# Altium footprint library 47590-0001.PcbLib: 1 footprints
Each footprint in its own frame and in the unit in brackets; x right, y up, seen from the top. Pads: shape width x height; smd on the part's side, far side on the other; paste and mask are expansions set on the pad; w line width, h text height; cw(c..) or ccw(c..) is an arc to the next point about the centre after c.
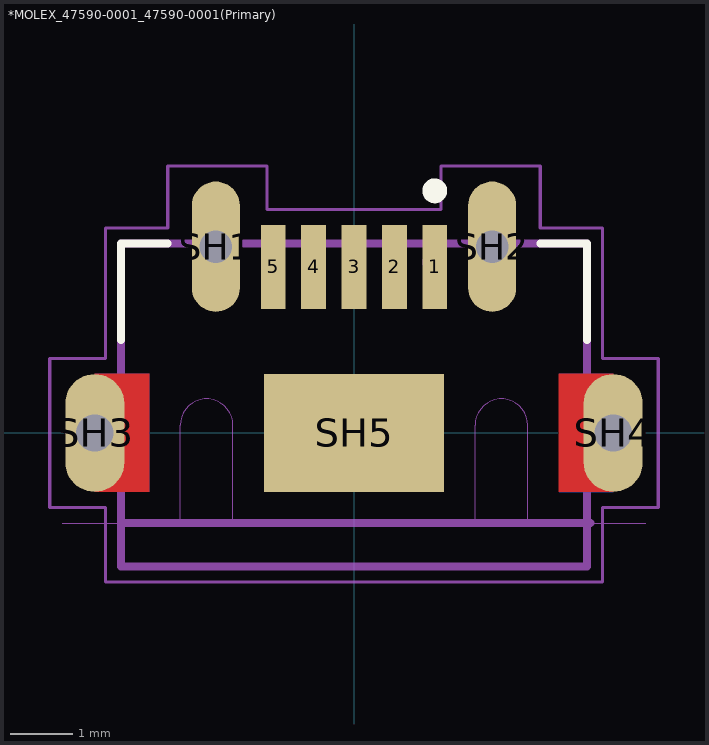
[diagram p0: the footprint, top view; thin cyan lines are the x and y axes]

## *MOLEX_47590-0001_47590-0001(Primary) [mm]
pads (10):
  rect 0.4x1.35 smd: 1(1.3,2.675) 2(0.65,2.675) 3(0,2.675) 4(-0.65,2.675) 5(-1.3,2.675)
  oval 0.771x2.1 hole 0.523: SH1(-2.225,3) SH2(2.225,3)
  oval 0.95x1.9 hole 0.6: SH3(-4.175,0) SH4(4.175,0)
  rect 2.9x1.9 smd: SH5(0,0)
Top Layer:
  region: 3.3,0.95 4.175,0.95 4.175,-0.95 3.3,-0.95
  region: -4.177,0.95 -3.3,0.95 -3.3,-0.951 -4.177,-0.951
Bottom Layer:
  region: 3.305,0.95 4.175,0.95 4.175,-0.951 3.305,-0.951
  region: -4.177,0.95 -3.3,0.95 -3.3,-0.95 -4.177,-0.95
Top Overlay:
  circle w0.2: c1.3,3.9 r0.1
  lines w0.127: -3.75,1.5 -3.75,3.05 -3,3.05 ; 3,3.05 3.75,3.05 3.75,1.5
Top Paste:
  region: 3.306,0.95 4.175,0.95 4.175,-0.952 3.306,-0.952
  region: -4.178,0.95 -3.3,0.95 -3.3,-0.951 -4.178,-0.951
Bottom Paste:
  region: 3.305,0.95 4.175,0.95 4.175,-0.952 3.305,-0.952
  region: -4.183,0.95 -3.3,0.95 -3.3,-0.952 -4.183,-0.952
Top Solder:
  region: 3.205,1.05 4.175,1.05 4.175,-1.052 3.205,-1.052
  region: -4.175,1.05 -3.2,1.05 -3.2,-1.05 -4.175,-1.05
Bottom Solder:
  region: 3.206,1.05 4.175,1.05 4.175,-1.052 3.206,-1.052
  region: -4.181,1.05 -3.2,1.05 -3.2,-1.052 -4.181,-1.052
Mechanical 1:
  lines w0: -4.7,-1.45 -2.8,-1.45 -2.8,0.125 cw(c-2.375,0.125) -1.95,0.125 -1.95,-1.45 1.95,-1.45 1.95,0.125 cw(c2.375,0.125) 2.8,0.125 2.8,-1.45 4.7,-1.45 ; -4.475,-0.35 ccw(c-4.175,-0.35) -3.875,-0.35 -3.875,0.35 ccw(c-4.175,0.35) -4.475,0.35 -4.475,-0.35 ; -2.55,2.575 -1.9,2.575 -1.9,3.425 -2.55,3.425 -2.55,2.575 ; 1.9,2.575 1.9,3.425 2.55,3.425 2.55,2.575 1.9,2.575 ; 3.875,-0.35 ccw(c4.175,-0.35) 4.475,-0.35 4.475,0.35 ccw(c4.175,0.35) 3.875,0.35 3.875,-0.35
Mechanical 4:
  circle w0.2: c1.3,2.75 r0.1
  circle w0.2: c1.3,2.75 r0.1
  lines w0.127: 3.81,-1.45 -3.75,-1.45 ; -3.75,-2.15 3.75,-2.15 ; -3.75,-2.15 -3.75,-1.45 ; -3.75,-2.15 3.75,-2.15 ; -3.75,-2.15 -3.75,-1.45 ; -3.75,-1.45 -3.75,3.05 ; -3.75,-1.45 -3.75,3.05 ; -3.75,3.05 3.75,3.05 ; -3.75,3.05 3.75,3.05 ; 3.75,-2.15 3.75,3.05 ; 3.75,-2.15 3.75,3.05
Mechanical 16:
  lines w0.05: -4.9,-1.2 -4.9,1.2 -4,1.2 -4,3.3 -3,3.3 -3,4.3 -1.4,4.3 -1.4,3.6 1.4,3.6 1.4,4.3 3,4.3 3,3.3 4,3.3 4,1.2 4.9,1.2 4.9,-1.2 4,-1.2 4,-2.4 -4,-2.4 -4,-1.2 -4.9,-1.2